# EAGLE library part 61001211921 (library Wurth_Elektronik_Electromechanic_Board_to_Board_Connectors_rev16a)
WR-PHD 2.54mm SMT Socket Header, 12 Pins=>Code : CON_BTB_SHD_2.54_1_SMT_61001211921 <http://katalog.we-online.de/media/images/eican/Con_BTB_SHD_2.54_1_SMT_6100xx11921_pf2.jpg> Details see: http://katalog.we-online.de/en/em/610_0xx_119_21 Created 2014-05-30, Karrer Zheng 2014 (C) Würth Elektronik
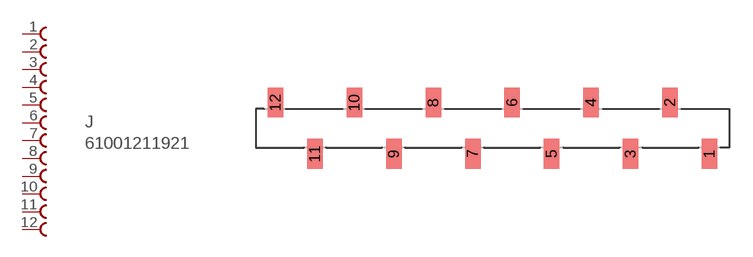
[diagram p199: symbol with the pads of 61001211921; footprint 61001211921]

Designator prefix J

## 61001211921  [61001211921]
1  1  pas
2  2  pas
3  3  pas
4  4  pas
5  5  pas
6  6  pas
7  7  pas
8  8  pas
9  9  pas
10  10  pas
11  11  pas
12  12  pas

## Footprint 61001211921 (pad centres in mm)
WR-PHD 2.54mm SMT Socket Header, 12 Pins
smd 1 x 1.91: 1 13.97,-1.645; 2 11.43,1.645; 3 8.89,-1.645; 4 6.35,1.645; 5 3.81,-1.645; 6 1.27,1.645; 7 -1.27,-1.645; 8 -3.81,1.645; 9 -6.35,-1.645; 10 -8.89,1.645; 11 -11.43,-1.645; 12 -13.97,1.645